# EAGLE library part ADXL345 (library iSENSE_Data_Logger)
Analog Devices 3-Axis Accelerometer Measurement range is adjustable: +/- 2g, +/- 4g, +/- 8g, +/- 16g. Includes both I2C and SPI interfaces.
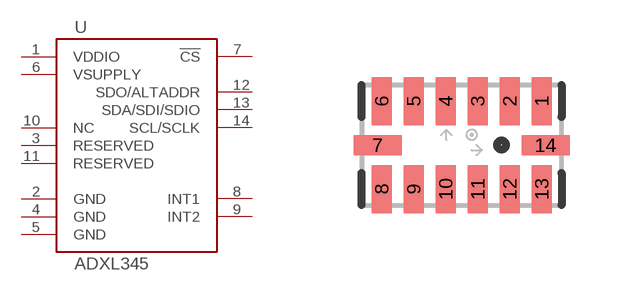
[diagram p2: symbol with the pads of LGA14; footprint LGA14]

Designator prefix U

## ADXL345 (PN: ADXL345BCCZ-RL)  [LGA14]
1  VDDIO  pwr
2  GND  pwr
3  RESERVED  pas
4  GND  pwr
5  GND  pwr
6  VSUPPLY  pwr
7  !CS!  in
8  INT1  out
9  INT2  out
10  NC  nc
11  RESERVED  pas
12  SDO/ALTADDR
13  SDA/SDI/SDIO
14  SCL/SCLK  in

## Footprint LGA14 (pad centres in mm)
smd 0.5 x 1.2: 1 2,1.1; 2 1.2,1.1; 3 0.4,1.1; 4 -0.4,1.1; 5 -1.2,1.1; 6 -2,1.1; 8 -2,-1.1; 9 -1.2,-1.1; 10 -0.4,-1.1; 11 0.4,-1.1; 12 1.2,-1.1; 13 2,-1.1
smd 1.2 x 0.5: 7 -2.1,0; 14 2.1,0